# EAGLE library part MICROSD (library rseries)
Micro-SD / Transflash card holder with SPI pinout For the Molex 0473093751 small-footprint MicroSD holder.
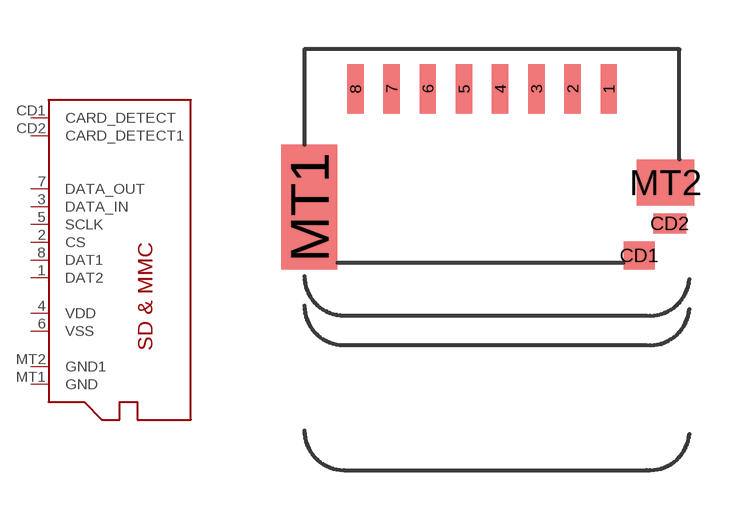
[diagram p3: symbol with the pads of MICROSD_SMALL; footprint MICROSD_SMALL]

Designator prefix -

## MICROSD  [MICROSD_SMALL]
1  DAT2
2  CS  in
3  DATA_IN  in
4  VDD  sup
5  SCLK  in
6  VSS  sup
7  DATA_OUT  out
8  DAT1
CD1  CARD_DETECT  pas
CD2  CARD_DETECT1  pas
MT1  GND  sup
MT2  GND1  sup

## Footprint MICROSD_SMALL (pad centres in mm)
smd 0.5 x 1.5: 1 3.85,-0.2; 2 2.75,-0.2; 3 1.65,-0.2; 4 0.55,-0.2; 5 -0.55,-0.2; 6 -1.65,-0.2; 7 -2.75,-0.2; 8 -3.85,-0.2
smd 0.95 x 0.85: CD1 4.775,-5.275
smd 1 x 0.6: CD2 5.7,-4.3
smd 1.7 x 3.8: MT1 -5.25,-3.8
smd 1.75 x 1.4: MT2 5.575,-3.05